# EAGLE library part HEADER-1X12 (library microbuilder)
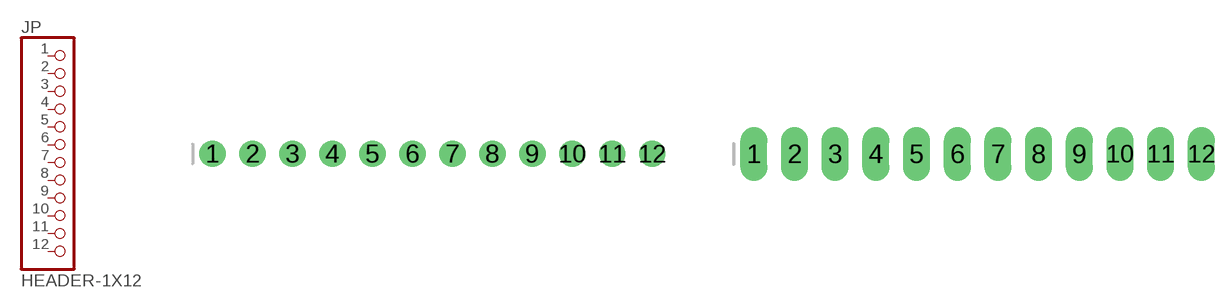
[diagram p44: symbol with the pads of 1X12_ROUND; footprints 1X12_ROUND, 1X12_OVAL]

Designator prefix JP

## HEADER-1X12  [1X12_ROUND]
1  1  pas
2  2  pas
3  3  pas
4  4  pas
5  5  pas
6  6  pas
7  7  pas
8  8  pas
9  9  pas
10  10  pas
11  11  pas
12  12  pas

## HEADER-1X12OVAL  [1X12_OVAL]
Pads as for 1X12_ROUND

## HEADER-1X1280MIL  [1X12_ROUND_80MIL]
Pads as for 1X12_ROUND

## HEADER-1X1276MIL  [1X12_ROUND_76MIL]
Pads as for 1X12_ROUND

## Footprint 1X12_ROUND (pad centres in mm)
drill 1 pad 1.676: 1 -13.97,0; 2 -11.43,0; 3 -8.89,0; 4 -6.35,0; 5 -3.81,0; 6 -1.27,0; 7 1.27,0; 8 3.81,0; 9 6.35,0; 10 8.89,0; 11 11.43,0; 12 13.97,0

## Footprint 1X12_OVAL (pad centres in mm)
drill 1 pad 1.676 long: 1 -13.97,0; 2 -11.43,0; 3 -8.89,0; 4 -6.35,0; 5 -3.81,0; 6 -1.27,0; 7 1.27,0; 8 3.81,0; 9 6.35,0; 10 8.89,0; 11 11.43,0; 12 13.97,0

## Footprint 1X12_ROUND_80MIL (pad centres in mm)
drill 1 pad 2.032: 1 -13.97,0; 2 -11.43,0; 3 -8.89,0; 4 -6.35,0; 5 -3.81,0; 6 -1.27,0; 7 1.27,0; 8 3.81,0; 9 6.35,0; 10 8.89,0; 11 11.43,0; 12 13.97,0

## Footprint 1X12_ROUND_76MIL (pad centres in mm)
drill 1 pad 1.93: 1 -13.97,0; 2 -11.43,0; 3 -8.89,0; 4 -6.35,0; 5 -3.81,0; 6 -1.27,0; 7 1.27,0; 8 3.81,0; 9 6.35,0; 10 8.89,0; 11 11.43,0; 12 13.97,0